# EAGLE library part MAX3373E (library Mine)
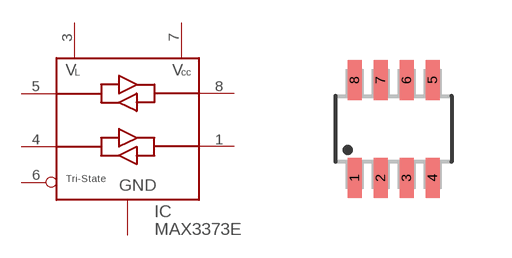
[diagram p22: symbol with the pads of SOT23-8L; footprint SOT23-8L]

Designator prefix IC

## MAX3373E  [SOT23-8L]
1  IOHI2
2  GND  pwr
3  VL  pwr
4  IOLO2
5  IOLO1
6  TRIIN
7  VCC  pwr
8  IOHI1

## Footprint SOT23-8L (pad centres in mm)
SC70/SOT23-8 Source: http://datasheets.maxim-ic.com/en/ds/MAX4335-MAX4338.pdf
smd 0.35 x 1: 1 -0.975,-1.225; 2 -0.325,-1.225; 3 0.325,-1.225; 4 0.975,-1.225; 5 0.975,1.225; 6 0.325,1.225; 7 -0.325,1.225; 8 -0.975,1.225